# Altium schematic symbol library OL_W.Schlib: 1 symbol
Pins are listed as number, name and electrical type; pins without a type are passive.

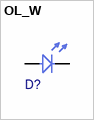
[diagram p0: symbol OL_W]

## OL_W
designator D?  (value not drawn)
LED_WHITE
pins: 1 C, 2 A